# EAGLE library part 52207-1985 (library Molex_By_element14_Batch_1)
SOCKET FPC, SMT, 1MM, 19 WAY
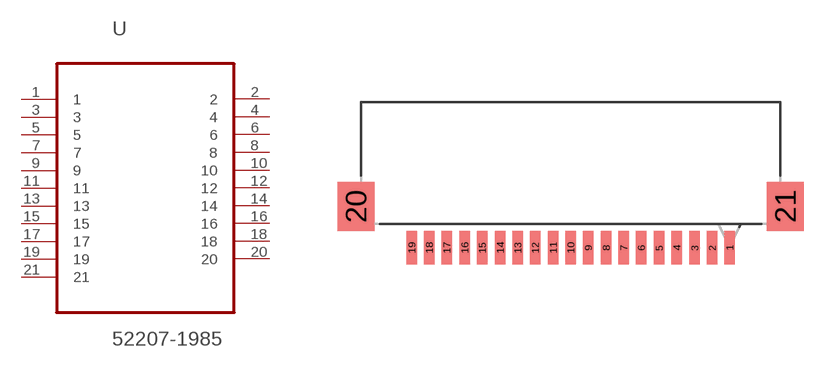
[diagram p6: symbol with the pads of MOLEX_52207-1985; footprint MOLEX_52207-1985]

Designator prefix U

## 52207-1985 (MPN: 52207-1985; OC_FARNELL: 1757082; OC_NEWARK: 34R5827; PACKAGE: SOCKET FPC, SMT, 1MM, 19 WAY; SUPPLIER: Molex)  [MOLEX_52207-1985]
1  1  pas
2  2  pas
3  3  pas
4  4  pas
5  5  pas
6  6  pas
7  7  pas
8  8  pas
9  9  pas
10  10  pas
11  11  pas
12  12  pas
13  13  pas
14  14  pas
15  15  pas
16  16  pas
17  17  pas
18  18  pas
19  19  pas
20  20  pas
21  21  pas

## Footprint MOLEX_52207-1985 (pad centres in mm)
smd 0.61 x 1.905: 1 8.992,4.801; 2 8.001,4.801; 3 7.01,4.801; 4 5.994,4.801; 5 5.004,4.801; 6 3.988,4.801; 7 2.997,4.801; 8 2.007,4.801; 9 0.991,4.801; 10 0,4.801; 11 -0.991,4.801; 12 -2.007,4.801; 13 -2.997,4.801; 14 -3.988,4.801; 15 -5.004,4.801; 16 -5.994,4.801; 17 -7.01,4.801; 18 -8.001,4.801; 19 -8.992,4.801
smd 2.108 x 2.794: 20 -12.141,7.137; 21 12.141,7.137